# Altium footprint library 20P排针2.54mm.PcbLib: 1 footprints
Each footprint in its own frame and in the unit in brackets; x right, y up, seen from the top. Pads: shape width x height; smd on the part's side, far side on the other; paste and mask are expansions set on the pad; w line width, h text height; cw(c..) or ccw(c..) is an arc to the next point about the centre after c.
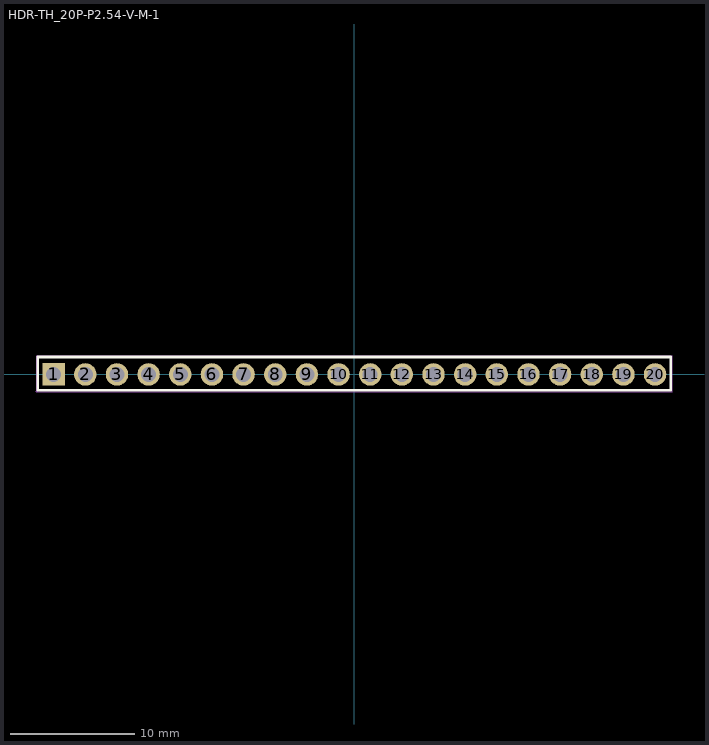
[diagram p0: the footprint, top view; thin cyan lines are the x and y axes]

## HDR-TH_20P-P2.54-V-M-1 [mm]
pads (20):
  rect 1.8x1.8 hole 1.2 mask+0.051: 1(-24.13,0)
  round 1.8 hole 1.2 mask+0.051: 2(-21.59,0) 3(-19.05,0) 4(-16.51,0) 5(-13.97,0) 6(-11.43,0) 7(-8.89,0) 8(-6.35,0) 9(-3.81,0) 10(-1.27,0) 11(1.27,0) 12(3.81,0) 13(6.35,0) 14(8.89,0) 15(11.43,0) 16(13.97,0) 17(16.51,0) 18(19.05,0) 19(21.59,0) 20(24.13,0)
Top Overlay:
  lines w0.203: -25.4,-1.27 -25.4,1.397 25.4,1.397 25.4,1.27 25.4,-1.27 -25.4,-1.27
Mechanical 15:
  drawing of 25 lines, arcs and shapes, not listed